# EAGLE library part WSSFM11R2D (library sigfox-radio)
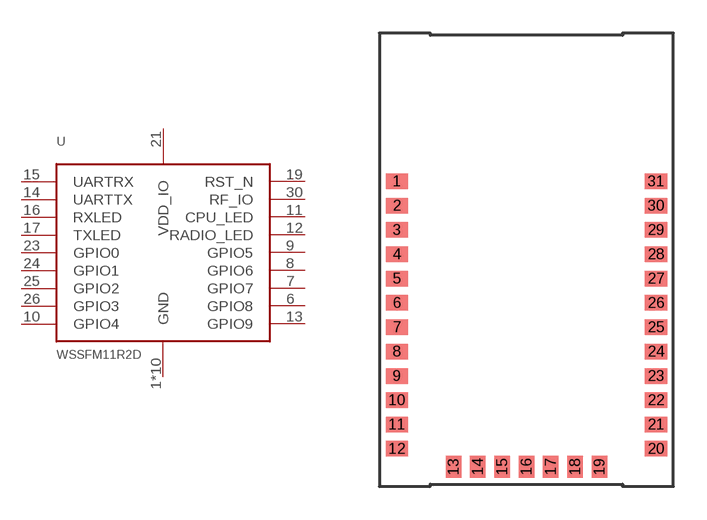
[diagram p0: symbol with the pads of WSSFM11R2D; footprint WSSFM11R2D]

Designator prefix -

## WSSFM11R2D  [WSSFM11R2D]
1  GND  pwr
2  GND  pwr
3  GND  pwr
4  GND  pwr
6  GPIO8
7  GPIO7
8  GPIO6
9  GPIO5
10  GPIO4
11  CPU_LED
12  RADIO_LED
13  GPIO9
14  UARTTX
15  UARTRX
16  RXLED
17  TXLED
19  RST_N
20  GND  pwr
21  VDD_IO  pwr
22  GND  pwr
23  GPIO0
24  GPIO1
25  GPIO2
26  GPIO3
27  GND  pwr
28  GND  pwr
29  GND  pwr
30  RF_IO
31  GND  pwr

## Footprint WSSFM11R2D (pad centres in mm)
smd 1 x 0.7: 1 -5.86,3.55; 2 -5.86,2.45; 3 -5.86,1.35; 4 -5.86,0.25; 5 -5.86,-0.85; 6 -5.86,-1.95; 7 -5.86,-3.05; 8 -5.86,-4.15; 9 -5.86,-5.255; 10 -5.86,-6.35; 11 -5.86,-7.45; 12 -5.86,-8.55; 20 5.86,-8.55; 21 5.86,-7.45; 22 5.86,-6.35; 23 5.86,-5.255; 24 5.86,-4.15; 25 5.86,-3.05; 26 5.86,-1.95; 27 5.86,-0.85; 28 5.86,0.25; 29 5.86,1.35; 30 5.86,2.45; 31 5.86,3.55
smd 0.7 x 1: 13 -3.3,-9.36; 14 -2.2,-9.36; 15 -1.1,-9.36; 16 0,-9.36; 17 1.1,-9.36; 18 2.2,-9.36; 19 3.3,-9.36